# Altium footprint library snes_exp_bridge_parts.PcbLib: 18 footprints (part 2 of 2)
Each footprint in its own frame and in the unit in brackets; x right, y up, seen from the top. Pads: shape width x height; smd on the part's side, far side on the other; paste and mask are expansions set on the pad; w line width, h text height; cw(c..) or ccw(c..) is an arc to the next point about the centre after c.
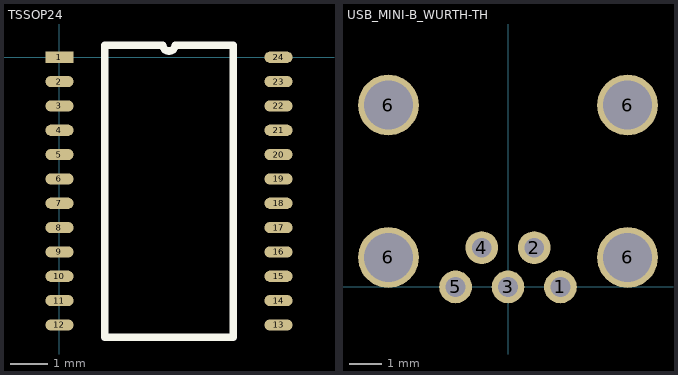
[diagram p1: the footprints below, top view; thin cyan lines are the x and y axes]

## TSSOP24 [mm]
pads (24):
  rect 0.75x0.3 smd: 1(0,0)
  oval 0.75x0.3 smd: 2(0,-0.65) 3(0,-1.3) 4(0,-1.95) 5(0,-2.6) 6(0,-3.25) 7(0,-3.9) 8(0,-4.55) 9(0,-5.2) 10(0,-5.85) 11(0,-6.5) 12(0,-7.15) 13(5.85,-7.15) 14(5.85,-6.5) 15(5.85,-5.85) 16(5.85,-5.2) 17(5.85,-4.55) 18(5.85,-3.9) 19(5.85,-3.25) 20(5.85,-2.6) 21(5.85,-1.95) 22(5.85,-1.3) 23(5.85,-0.65) 24(5.85,0)
Top Overlay:
  lines w0.2: 1.21,-7.475 4.64,-7.475 4.64,0.325 3.087,0.325 cw(c2.925,0.325) 2.763,0.325 1.21,0.325 1.21,-7.475
3D body: height 1.2, standoff 0, extent 0.356,-7.747 5.486,0.635

## USB_MINI-B_WURTH-TH [mm]
pads (9):
  round 1 hole 0.6: 1(1.6,0) 2(0.8,1.2) 3(0,0) 4(-0.8,1.2) 5(-1.6,0)
  round 1.856 hole 1.5 mask+0.102: 6(-3.65,0.9) 6(-3.65,5.55) 6(3.65,0.9) 6(3.65,5.55)
3D body "651005136521.stp": height 4.05, standoff -2.45, extent -4.1,-0.127 4.05,8.698